# Altium integrated library Allegro Interface Printer Driver.IntLib: 5 symbols
Pins are listed as number, name and electrical type; pins without a type are passive.

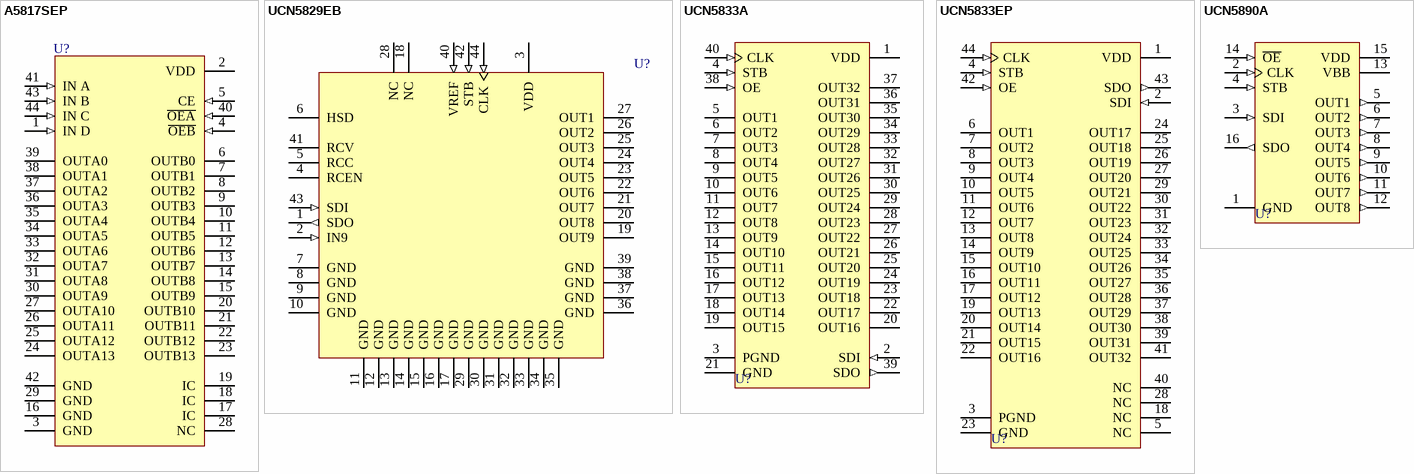
[diagram p0: symbols A5817SEP to UCN5890A]

## A5817SEP
designator U?
Addressable 28-Line Decoder/Driver; ComponentAvailability: Obsolete; Published: 13-Oct-2000; LatestRevisionDate: 13-Apr-2006; LatestRevisionNote: IPC-7351 Footprint Added.; DatasheetVersion: 1995; PackageVersion: 1995; PackageReference: EP44; Publisher: Altium Limited; PackageDescription: 44-Pin Leaded Chip Carrier 1.27 mm Pitch; Code_IPC: PLCC-44; ComponentLink1Description: Manufacturer Link; ComponentLink1URL: http://www.allegromicro.com/; ComponentLink2Description: Datasheet; ComponentLink2URL: http://www.allegromicro.com/datafile/archive/5817.pdf
footprint EP44_N (Leaded Chip Carrier, 44-Leads, Body 16.6x16.6mm, Pitch 1.27mm, IPC Medium Density)
footprint EP44_L (Leaded Chip Carrier, 44-Leads, Body 16.6x16.6mm, Pitch 1.27mm, IPC High Density)
footprint EP44_M (Leaded Chip Carrier, 44-Leads, Body 16.6x16.6mm, Pitch 1.27mm, IPC Low Density)
3D model A5817-EP44 (44-Pin Leaded Chip Carrier 1.27 mm Pitch)
pins: 1 IN D (in), 2 VDD (power), 3 GND (power), 4 ~{OEB} (in), 5 CE (in), 6 OUTB0 (oc), 7 OUTB1 (oc), 8 OUTB2 (oc), 9 OUTB3 (oc), 10 OUTB4 (oc), 11 OUTB5 (oc), 12 OUTB6 (oc), 13 OUTB7 (oc), 14 OUTB8 (oc), 15 OUTB9 (oc), 16 GND (power), 17 IC, 18 IC, 19 IC, 20 OUTB10 (oc), 21 OUTB11 (oc), 22 OUTB12 (oc), 23 OUTB13 (oc), 24 OUTA13 (oc), 25 OUTA12 (oc), 26 OUTA11 (oc), 27 OUTA10 (oc), 28 NC, 29 GND (power), 30 OUTA9 (oc), 31 OUTA8 (oc), 32 OUTA7 (oc), 33 OUTA6 (oc), 34 OUTA5 (oc), 35 OUTA4 (oc), 36 OUTA3 (oc), 37 OUTA2 (oc), 38 OUTA1 (oc), 39 OUTA0 (oc), 40 ~{OEA} (in), 41 IN A (in), 42 GND (power), 43 IN B (in), 44 IN C (in)

## UCN5829EB
designator U?
9-Bit Serial-Input, Latched Sink Driver; Note: Pins (7-17) and (29-39) exist as TABS; all are internally connected (GND).; ComponentAvailability: Obsolete; Published: 13-Oct-2000; LatestRevisionDate: 13-Apr-2006; LatestRevisionNote: IPC-7351 Footprint Added.; DatasheetVersion: 1995; PackageVersion: 1995; PackageReference: EB44; Publisher: Altium Limited; PackageDescription: 44-Pin Leaded Chip Carrier 1.27 mm Pitch; Code_IPC: PLCC-44; ComponentLink1Description: Manufacturer Link; ComponentLink1URL: http://www.allegromicro.com/; ComponentLink2Description: Datasheet; ComponentLink2URL: http://www.allegromicro.com/datafile/archive/5829.pdf
footprint EB44_N (Leaded Chip Carrier, 44-Leads, Body 16.6x16.6mm, Pitch 1.27mm, IPC Medium Density)
footprint EB44_L (Leaded Chip Carrier, 44-Leads, Body 16.6x16.6mm, Pitch 1.27mm, IPC High Density)
footprint EB44_M (Leaded Chip Carrier, 44-Leads, Body 16.6x16.6mm, Pitch 1.27mm, IPC Low Density)
3D model UCN5829-EB44 (44-Pin Leaded Chip Carrier 1.27 mm Pitch)
pins: 1 SDO (out), 2 IN9 (in), 3 VDD (power), 4 RCEN, 5 RCC, 6 HSD (oc), 7 GND (power), 8 GND (power), 9 GND (power), 10 GND (power), 11 GND (power), 12 GND (power), 13 GND (power), 14 GND (power), 15 GND (power), 16 GND (power), 17 GND (power), 18 NC, 19 OUT9 (oc), 20 OUT8 (oc), 21 OUT7 (oc), 22 OUT6 (oc), 23 OUT5 (oc), 24 OUT4 (oc), 25 OUT3 (oc), 26 OUT2 (oc), 27 OUT1 (oc), 28 NC, 29 GND (power), 30 GND (power), 31 GND (power), 32 GND (power), 33 GND (power), 34 GND (power), 35 GND (power), 36 GND (power), 37 GND (power), 38 GND (power), 39 GND (power), 40 VREF (in), 41 RCV, 42 STB (in), 43 SDI (in), 44 CLK (in)

## UCN5833A
designator U?
BiMOS II 32-Bit Serial-Input, Latched Driver; ComponentAvailability: Not for New Design; Published: 13-Oct-2000; LatestRevisionDate: 06-Jun-2005; LatestRevisionNote: Stylized 3D Model Added.; DatasheetVersion: 1995; PackageVersion: 1995; PackageReference: A40; Publisher: Altium Limited; PackageDescription: DIP; 40 Leads; Row Spacing 15.24 mm; Pitch 2.54 mm; Code_JEDEC: MS-011-AC; ComponentLink1Description: Manufacturer Link; ComponentLink1URL: http://www.allegromicro.com/; ComponentLink2Description: Datasheet; ComponentLink2URL: http://www.allegromicro.com/datafile/5833.pdf
footprint A40 (DIP; 40 Leads; Row Spacing 15.24 mm; Pitch 2.54 mm)
3D model A40 (DIP; 40 Leads; Row Spacing 15.24 mm; Pitch 2.54 mm)
pins: 1 VDD (power), 2 SDI (in), 3 PGND (power), 4 STB (in), 5 OUT1 (oc), 6 OUT2 (oc), 7 OUT3 (oc), 8 OUT4 (oc), 9 OUT5 (oc), 10 OUT6 (oc), 11 OUT7 (oc), 12 OUT8 (oc), 13 OUT9 (oc), 14 OUT10 (oc), 15 OUT11 (oc), 16 OUT12 (oc), 17 OUT13 (oc), 18 OUT14 (oc), 19 OUT15 (oc), 20 OUT16 (oc), 21 GND (power), 22 OUT17 (oc), 23 OUT18 (oc), 24 OUT19 (oc), 25 OUT20 (oc), 26 OUT21 (oc), 27 OUT22 (oc), 28 OUT23 (oc), 29 OUT24 (oc), 30 OUT25 (oc), 31 OUT26 (oc), 32 OUT27 (oc), 33 OUT28 (oc), 34 OUT29 (oc), 35 OUT30 (oc), 36 OUT31 (oc), 37 OUT32 (oc), 38 OE (in), 39 SDO (out), 40 CLK (in)

## UCN5833EP
designator U?
BiMOS II 32-Bit Serial-Input, Latched Driver; ComponentAvailability: Not for New Design; Published: 13-Oct-2000; LatestRevisionDate: 13-Apr-2006; LatestRevisionNote: IPC-7351 Footprint Added.; DatasheetVersion: 1995; PackageVersion: 1995; PackageReference: EP44; Publisher: Altium Limited; PackageDescription: 44-Pin Leaded Chip Carrier 1.27 mm Pitch; Code_IPC: PLCC-44; ComponentLink1Description: Manufacturer Link; ComponentLink1URL: http://www.allegromicro.com/; ComponentLink2Description: Datasheet; ComponentLink2URL: http://www.allegromicro.com/datafile/5833.pdf
footprint EP44_N (Leaded Chip Carrier, 44-Leads, Body 16.6x16.6mm, Pitch 1.27mm, IPC Medium Density)
footprint EP44_L (Leaded Chip Carrier, 44-Leads, Body 16.6x16.6mm, Pitch 1.27mm, IPC High Density)
footprint EP44_M (Leaded Chip Carrier, 44-Leads, Body 16.6x16.6mm, Pitch 1.27mm, IPC Low Density)
3D model UCN5833-EP44 (44-Pin Leaded Chip Carrier 1.27 mm Pitch)
pins: 1 VDD (power), 2 SDI (in), 3 PGND (power), 4 STB (in), 5 NC, 6 OUT1 (oc), 7 OUT2 (oc), 8 OUT3 (oc), 9 OUT4 (oc), 10 OUT5 (oc), 11 OUT6 (oc), 12 OUT7 (oc), 13 OUT8 (oc), 14 OUT9 (oc), 15 OUT10 (oc), 16 OUT11 (oc), 17 OUT12 (oc), 18 NC, 19 OUT13 (oc), 20 OUT14 (oc), 21 OUT15 (oc), 22 OUT16 (oc), 23 GND (power), 24 OUT17 (oc), 25 OUT18 (oc), 26 OUT19 (oc), 27 OUT20 (oc), 28 NC, 29 OUT21 (oc), 30 OUT22 (oc), 31 OUT23 (oc), 32 OUT24 (oc), 33 OUT25 (oc), 34 OUT26 (oc), 35 OUT27 (oc), 36 OUT28 (oc), 37 OUT29 (oc), 38 OUT30 (oc), 39 OUT31 (oc), 40 NC, 41 OUT32 (oc), 42 OE (in), 43 SDO (out), 44 CLK (in)

## UCN5890A
designator U?
BiMOS II 8-Bit Serial-Input, Latched Source Driver; ComponentAvailability: Obsolete; Published: 13-Oct-2000; LatestRevisionDate: 06-Jun-2005; LatestRevisionNote: Stylized 3D Model Added.; DatasheetVersion: 1995; PackageVersion: 1998; PackageReference: A16; Publisher: Altium Limited; PackageDescription: DIP; 16 Leads; Row Spacing 7.62 mm; Pitch 2.54 mm; Code_JEDEC: MS-001-BB; ComponentLink1Description: Manufacturer Link; ComponentLink1URL: http://www.allegromicro.com/; ComponentLink2Description: Datasheet; ComponentLink2URL: http://www.allegromicro.com/datafile/archive/5890.pdf
footprint A16 (DIP; 16 Leads; Row Spacing 7.62 mm; Pitch 2.54 mm)
3D model A16 (DIP; 16 Leads; Row Spacing 7.62 mm; Pitch 2.54 mm)
pins: 1 GND (power), 2 CLK (in), 3 SDI (in), 4 STB (in), 5 OUT1 (out), 6 OUT2 (out), 7 OUT3 (out), 8 OUT4 (out), 9 OUT5 (out), 10 OUT6 (out), 11 OUT7 (out), 12 OUT8 (out), 13 VBB (power), 14 ~{OE} (in), 15 VDD (power), 16 SDO (out)